# EAGLE library part MC9S12NE64 (library MC9S12NE64-LQFP112)
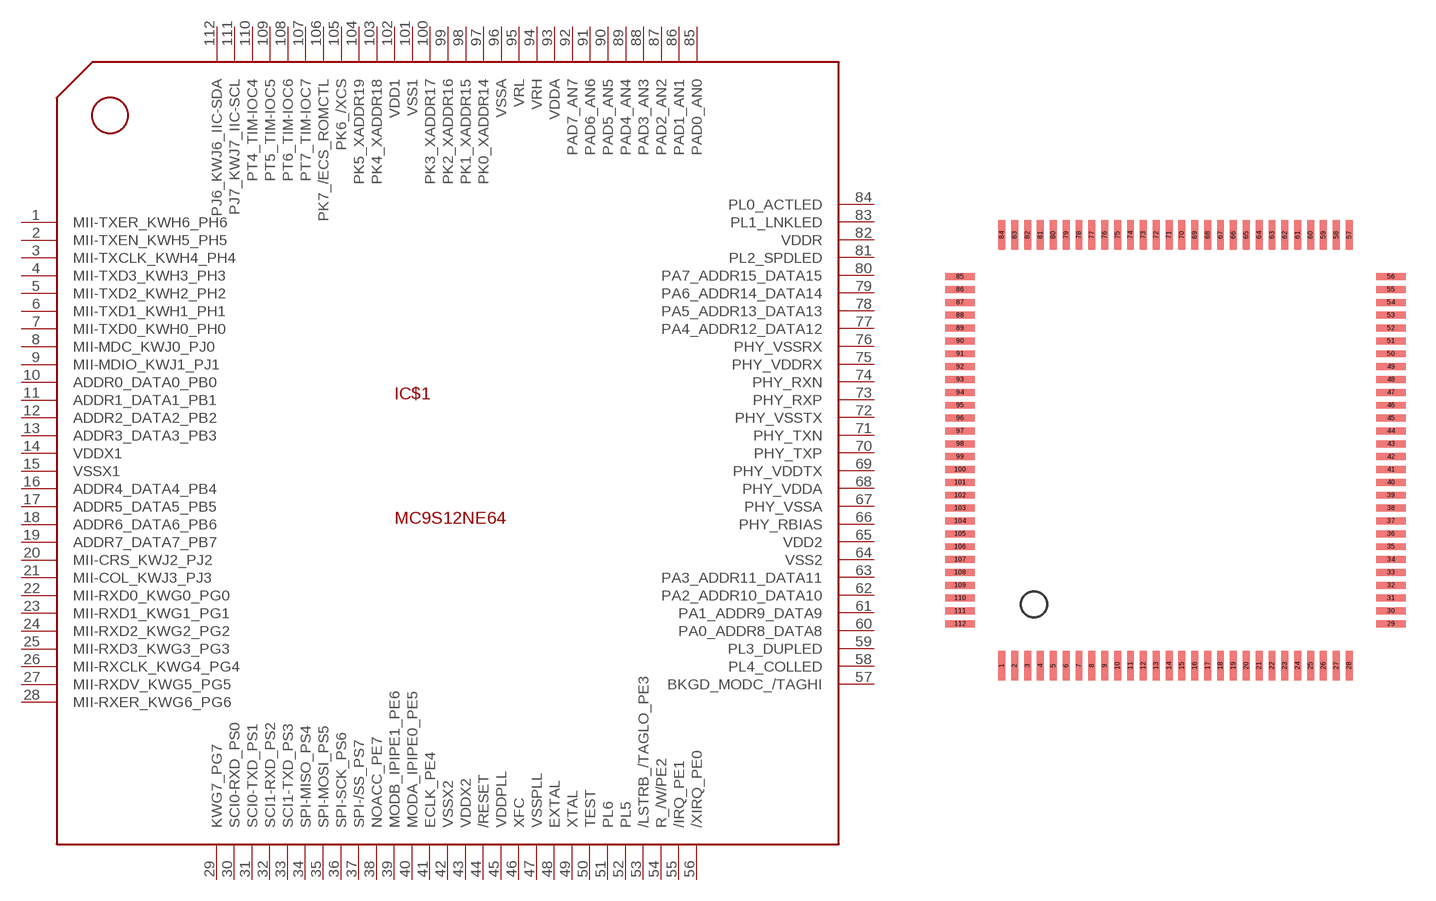
[diagram p0: symbol with the pads of LQFP-112; footprint LQFP-112]

Designator prefix IC$1

## MC9S12NE64  [LQFP-112]
1  MII-TXER_KWH6_PH6
2  MII-TXEN_KWH5_PH5
3  MII-TXCLK_KWH4_PH4
4  MII-TXD3_KWH3_PH3
5  MII-TXD2_KWH2_PH2
6  MII-TXD1_KWH1_PH1
7  MII-TXD0_KWH0_PH0
8  MII-MDC_KWJ0_PJ0
9  MII-MDIO_KWJ1_PJ1
10  ADDR0_DATA0_PB0
11  ADDR1_DATA1_PB1
12  ADDR2_DATA2_PB2
13  ADDR3_DATA3_PB3
14  VDDX1  pwr
15  VSSX1  pwr
16  ADDR4_DATA4_PB4
17  ADDR5_DATA5_PB5
18  ADDR6_DATA6_PB6
19  ADDR7_DATA7_PB7
20  MII-CRS_KWJ2_PJ2
21  MII-COL_KWJ3_PJ3
22  MII-RXD0_KWG0_PG0
23  MII-RXD1_KWG1_PG1
24  MII-RXD2_KWG2_PG2
25  MII-RXD3_KWG3_PG3
26  MII-RXCLK_KWG4_PG4
27  MII-RXDV_KWG5_PG5
28  MII-RXER_KWG6_PG6
29  KWG7_PG7
30  SCI0-RXD_PS0
31  SCI0-TXD_PS1
32  SCI1-RXD_PS2
33  SCI1-TXD_PS3
34  SPI-MISO_PS4
35  SPI-MOSI_PS5
36  SPI-SCK_PS6
37  SPI-/SS_PS7
38  NOACC_PE7
39  MODB_IPIPE1_PE6
40  MODA_IPIPE0_PE5
41  ECLK_PE4
42  VSSX2  pwr
43  VDDX2  pwr
44  /RESET
45  VDDPLL  pwr
46  XFC
47  VSSPLL  pwr
48  EXTAL
49  XTAL
50  TEST
51  PL6
52  PL5
53  /LSTRB_/TAGLO_PE3
54  R_/W/PE2
55  /IRQ_PE1
56  /XIRQ_PE0
57  BKGD_MODC_/TAGHI
58  PL4_COLLED
59  PL3_DUPLED
60  PA0_ADDR8_DATA8
61  PA1_ADDR9_DATA9
62  PA2_ADDR10_DATA10
63  PA3_ADDR11_DATA11
64  VSS2  pwr
65  VDD2  pwr
66  PHY_RBIAS
67  PHY_VSSA  pwr
68  PHY_VDDA  pwr
69  PHY_VDDTX  pwr
70  PHY_TXP
71  PHY_TXN
72  PHY_VSSTX  pwr
73  PHY_RXP
74  PHY_RXN
75  PHY_VDDRX  pwr
76  PHY_VSSRX  pwr
77  PA4_ADDR12_DATA12
78  PA5_ADDR13_DATA13
79  PA6_ADDR14_DATA14
80  PA7_ADDR15_DATA15
81  PL2_SPDLED
82  VDDR  pwr
83  PL1_LNKLED
84  PL0_ACTLED
85  PAD0_AN0
86  PAD1_AN1
87  PAD2_AN2
88  PAD3_AN3
89  PAD4_AN4
90  PAD5_AN5
91  PAD6_AN6
92  PAD7_AN7
93  VDDA  pwr
94  VRH  pwr
95  VRL  pwr
96  VSSA  pwr
97  PK0_XADDR14
98  PK1_XADDR15
99  PK2_XADDR16
100  PK3_XADDR17
101  VSS1  pwr
102  VDD1  pwr
103  PK4_XADDR18
104  PK5_XADDR19
105  PK6_/XCS
106  PK7_/ECS_ROMCTL
107  PT7_TIM-IOC7
108  PT6_TIM-IOC6
109  PT5_TIM-IOC5
110  PT4_TIM-IOC4
111  PJ7_KWJ7_IIC-SCL
112  PJ6_KWJ6_IIC-SDA

## Footprint LQFP-112 (pad centres in mm)
smd 0.35 x 1.5: 1 -8.775,-10.887; 2 -8.125,-10.887; 3 -7.475,-10.887; 4 -6.825,-10.887; 5 -6.175,-10.887; 6 -5.525,-10.887; 7 -4.875,-10.887; 8 -4.225,-10.887; 9 -3.575,-10.887; 10 -2.925,-10.887; 11 -2.275,-10.887; 12 -1.625,-10.887; 13 -0.975,-10.887; 14 -0.325,-10.887; 15 0.325,-10.887; 16 0.975,-10.887; 17 1.625,-10.887; 18 2.275,-10.887; 19 2.925,-10.887; 20 3.575,-10.887; 21 4.225,-10.887; 22 4.875,-10.887; 23 5.525,-10.887; 24 6.175,-10.887; 25 6.825,-10.887; 26 7.475,-10.887; 27 8.125,-10.887; 28 8.775,-10.887; 57 8.775,10.887; 58 8.125,10.887; 59 7.475,10.887; 60 6.825,10.887; 61 6.175,10.887; 62 5.525,10.887; 63 4.875,10.887; 64 4.225,10.887; 65 3.575,10.887; 66 2.925,10.887; 67 2.275,10.887; 68 1.625,10.887; 69 0.975,10.887; 70 0.325,10.887; 71 -0.325,10.887; 72 -0.975,10.887; 73 -1.625,10.887; 74 -2.275,10.887; 75 -2.925,10.887; 76 -3.575,10.887; 77 -4.225,10.887; 78 -4.875,10.887; 79 -5.525,10.887; 80 -6.175,10.887; 81 -6.825,10.887; 82 -7.475,10.887; 83 -8.125,10.887; 84 -8.775,10.887
smd 1.5 x 0.35: 29 10.887,-8.775; 30 10.887,-8.125; 31 10.887,-7.475; 32 10.887,-6.825; 33 10.887,-6.175; 34 10.887,-5.525; 35 10.887,-4.875; 36 10.887,-4.225; 37 10.887,-3.575; 38 10.887,-2.925; 39 10.887,-2.275; 40 10.887,-1.625; 41 10.887,-0.975; 42 10.887,-0.325; 43 10.887,0.325; 44 10.887,0.975; 45 10.887,1.625; 46 10.887,2.275; 47 10.887,2.925; 48 10.887,3.575; 49 10.887,4.225; 50 10.887,4.875; 51 10.887,5.525; 52 10.887,6.175; 53 10.887,6.825; 54 10.887,7.475; 55 10.887,8.125; 56 10.887,8.775; 85 -10.887,8.775; 86 -10.887,8.125; 87 -10.887,7.475; 88 -10.887,6.825; 89 -10.887,6.175; 90 -10.887,5.525; 91 -10.887,4.875; 92 -10.887,4.225; 93 -10.887,3.575; 94 -10.887,2.925; 95 -10.887,2.275; 96 -10.887,1.625; 97 -10.887,0.975; 98 -10.887,0.325; 99 -10.887,-0.325; 100 -10.887,-0.975; 101 -10.887,-1.625; 102 -10.887,-2.275; 103 -10.887,-2.925; 104 -10.887,-3.575; 105 -10.887,-4.225; 106 -10.887,-4.875; 107 -10.887,-5.525; 108 -10.887,-6.175; 109 -10.887,-6.825; 110 -10.887,-7.475; 111 -10.887,-8.125; 112 -10.887,-8.775